# Altium footprint library PCB_FOCShield.PcbLib: 18 footprints (part 1 of 2)
Each footprint in its own frame and in the unit in brackets; x right, y up, seen from the top. Pads: shape width x height; smd on the part's side, far side on the other; paste and mask are expansions set on the pad; w line width, h text height; cw(c..) or ccw(c..) is an arc to the next point about the centre after c.
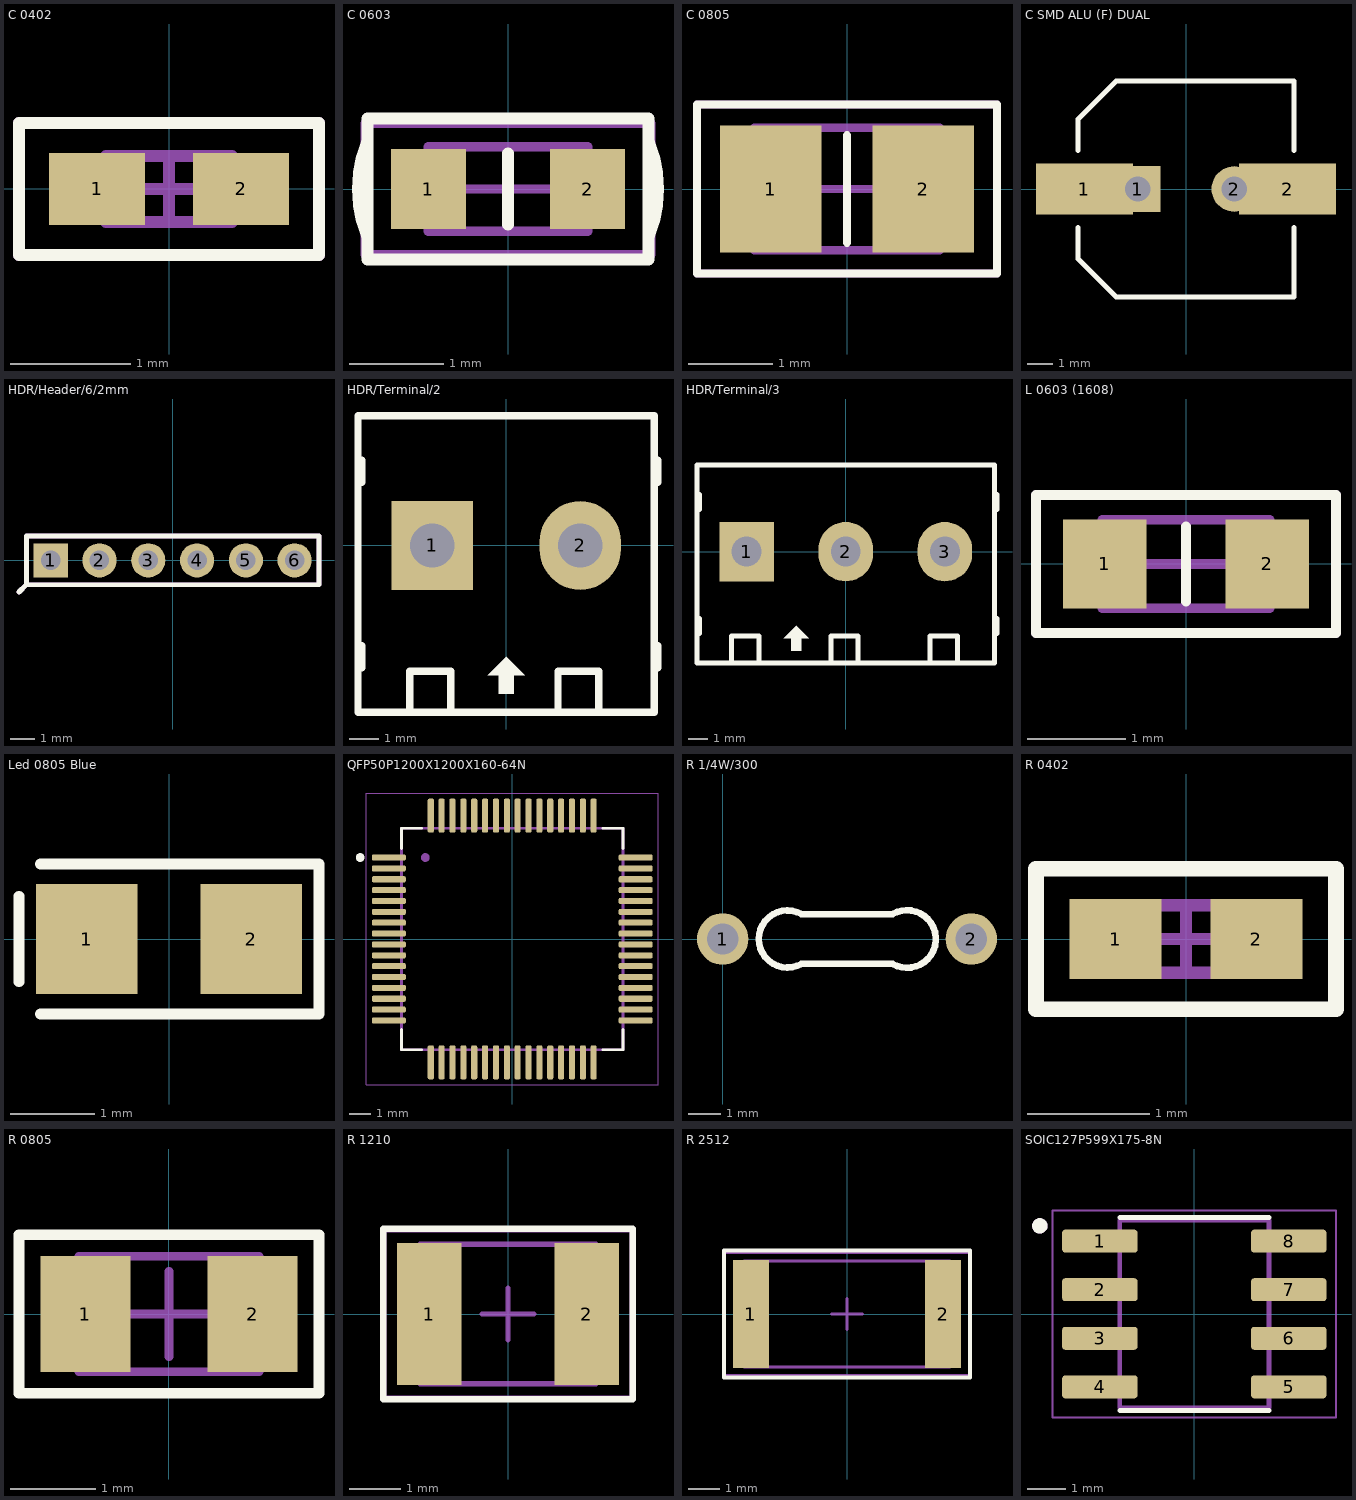
[diagram p0: the footprints below, top view; thin cyan lines are the x and y axes]

## C 0402 [mm]
pads (2):
  rect 0.8x0.6 smd: 1(-0.6,0) 2(0.6,0)
Top Overlay:
  lines w0.1: -1.25,-0.55 1.25,-0.55 1.25,0.55 -1.25,0.55 -1.25,-0.55
Mechanical 13:
  lines w0.1: -0.525,-0.275 0.525,-0.275 0.525,0.275 -0.525,0.275 -0.525,-0.275
Mechanical 15:
  lines w0.1: -0.275,0 0.275,0 ; 0,-0.275 0,0.275 ; -1.25,-0.55 1.25,-0.55 1.25,0.55 -1.25,0.55 -1.25,-0.55
3D body "User Library-CAPC1005X06.step": height 0.6, standoff 0, extent -0.5,-0.25 0.5,0.25

## C 0603 [mm]
pads (2):
  rect 0.8x0.85 smd: 1(-0.85,0) 2(0.85,0)
Top Overlay:
  lines w0.127: -1.503,-0.501 cw(c-0.25,0) -1.503,0.501 ; 0,-0.381 0,0.381 ; 1.503,-0.501 ccw(c0.25,0) 1.503,0.501 ; -1.5,-0.75 1.5,-0.75 1.5,0.75 -1.5,0.75 -1.5,-0.75
Mechanical 13:
  lines w0.1: -0.85,-0.45 0.85,-0.45 0.85,0.45 -0.85,0.45 -0.85,-0.45
Mechanical 15:
  lines w0.1: -0.45,0 0.45,0 ; 0,-0.45 0,0.45 ; -1.525,-0.7 1.525,-0.7 1.525,0.7 -1.525,0.7 -1.525,-0.7
3D body "User Library-Chip Capacitor2.step": height 0.81, standoff 0.01, extent -0.8,-0.432 0.8,0.428

## C 0805 [mm]
pads (2):
  rect 1.2x1.5 smd: 1(-0.9,0) 2(0.9,0)
Top Overlay:
  lines w0.1: 0,-0.635 0,0.635 ; -1.775,-1 -1.775,1 1.775,1 1.775,-1 -1.775,-1
Mechanical 13:
  lines w0.1: -1.1,-0.725 -1.1,0.725 1.1,0.725 1.1,-0.725 -1.1,-0.725
Mechanical 15:
  lines w0.1: -0.5,0 0.5,0 ; 0,-0.5 0,0.5 ; -1.775,-1 1.775,-1 1.775,1 -1.775,1 -1.775,-1
3D body "cap 0805.step": height 0.6, standoff 0, extent -1,-0.64 1,0.61

## C SMD ALU (F) DUAL [mm]
pads (4):
  rect 3.81x2 smd: 1(-4,0) 2(4,0)
  rect 1.8x1.8 hole 1: 1(-1.905,0)
  round 1.8 hole 1: 2(1.905,0)
Top Overlay:
  lines w0.2: -4.25,-1.524 -4.25,-2.75 -2.75,-4.25 4.25,-4.25 4.25,-1.524 ; -4.25,1.524 -4.25,2.75 -2.75,4.25 4.25,4.25 4.25,1.524
3D body "User Library-ALU-F.STEP": height 10.2, standoff 0, extent -4.95,-4.15 4.95,4.15

## HDR/Header/6/2mm [mm]
pads (6):
  rect 1.4x1.4 hole 0.8: 1(-5,0)
  round 1.4 hole 0.8: 2(-3,0) 3(-1,0) 4(1,0) 5(3,0) 6(5,0)
Top Overlay:
  lines w0.203: -6.3,-1.3 -6,-1 ; -6,-1 -6,1 6,1 6,-1 -6,-1
Mechanical 1:
  lines w0.203: -6.3,-1.3 -6,-1 ; -6,-1 -6,1 6,1 6,-1 -6,-1
3D body "pin_header_a-sl200-eg-g06d.stp": height 6, standoff -2.8, extent -5.975,-1 5.975,1

## HDR/Terminal/2 [mil]
pads (2):
  rect 110x120 hole 60: 1(-100,0)
  oval 110x120 hole 60: 2(100,0)
Top Overlay:
  region: 0,-150 -25,-175 -10,-175 -10,-200 10,-200 10,-175 25,-175
  lines w10: -195,-165 -195,-135 ; -195,85 -195,115 ; -130,-225 -130,-170 -75,-170 -75,-225 ; 70,-225 70,-170 125,-170 125,-225 ; 205,-165 205,-135 ; 205,85 205,115 ; -200,-225 -200,175 200,175 200,-225 -200,-225
3D body "13989.stp": height 559.05, standoff -137.8, extent -229.17,-217.91 200,167.91

## HDR/Terminal/3 [mil]
pads (3):
  rect 110x120 hole 60: 1(-200,0)
  oval 110x120 hole 60: 2(0,0) 3(200,0)
Top Overlay:
  region: -100,-150 -125,-175 -110,-175 -110,-200 -90,-200 -90,-175 -75,-175
  lines w10: -295,-165 -295,-135 ; -295,85 -295,115 ; -230,-225 -230,-170 -175,-170 -175,-225 ; -30,-225 -30,-170 25,-170 25,-225 ; 170,-225 170,-170 225,-170 225,-225 ; 305,-165 305,-135 ; 305,85 305,115 ; -300,-225 300,-225 300,175 -300,175 -300,-225
3D body "13989.stp": height 559.05, standoff -137.8, extent -129.17,-217.91 300,167.91
3D body "13989.stp": height 559.05, standoff -137.8, extent -329.17,-217.91 100,167.91

## L 0603 (1608) [mm]
pads (2):
  rect 0.85x0.9 smd: 1(-0.825,0) 2(0.825,0)
Top Overlay:
  lines w0.1: 0,-0.381 0,0.381 ; -1.525,-0.7 -1.525,0.7 1.525,0.7 1.525,-0.7 -1.525,-0.7
Mechanical 13:
  lines w0.1: -0.85,-0.45 -0.85,0.45 0.85,0.45 0.85,-0.45 -0.85,-0.45
Mechanical 15:
  lines w0.1: -0.45,0 0.45,0 ; 0,-0.45 0,0.45 ; -1.525,-0.7 -1.525,0.7 1.525,0.7 1.525,-0.7 -1.525,-0.7
3D body "User Library-Chip Inductor-L0603 (1608).step": height 0.8, standoff 0, extent -0.8,-0.475 0.8,0.475

## Led 0805 Blue [mm]
pads (2):
  rect 1.2x1.3 smd: 1(-0.975,0) 2(0.975,0)
Top Overlay:
  lines w0.127: -1.778,-0.508 -1.778,0.508 ; -1.524,-0.889 1.778,-0.889 1.778,0.889 -1.524,0.889
3D body "User Library-led_0805-blue.step": height 1.1, standoff 0, extent -1.01,-0.625 1.01,0.625

## QFP50P1200X1200X160-64N [mm]
pads (64):
  rrect50% 1.56x0.28 smd: 1(-5.68,3.75) 2(-5.68,3.25) 3(-5.68,2.75) 4(-5.68,2.25) 5(-5.68,1.75) 6(-5.68,1.25) 7(-5.68,0.75) 8(-5.68,0.25) 9(-5.68,-0.25) 10(-5.68,-0.75) 11(-5.68,-1.25) 12(-5.68,-1.75) 13(-5.68,-2.25) 14(-5.68,-2.75) 15(-5.68,-3.25) 16(-5.68,-3.75) 33(5.68,-3.75) 34(5.68,-3.25) 35(5.68,-2.75) 36(5.68,-2.25) 37(5.68,-1.75) 38(5.68,-1.25) 39(5.68,-0.75) 40(5.68,-0.25) 41(5.68,0.25) 42(5.68,0.75) 43(5.68,1.25) 44(5.68,1.75) 45(5.68,2.25) 46(5.68,2.75) 47(5.68,3.25) 48(5.68,3.75)
  rrect50% 0.28x1.56 smd: 17(-3.75,-5.68) 18(-3.25,-5.68) 19(-2.75,-5.68) 20(-2.25,-5.68) 21(-1.75,-5.68) 22(-1.25,-5.68) 23(-0.75,-5.68) 24(-0.25,-5.68) 25(0.25,-5.68) 26(0.75,-5.68) 27(1.25,-5.68) 28(1.75,-5.68) 29(2.25,-5.68) 30(2.75,-5.68) 31(3.25,-5.68) 32(3.75,-5.68) 49(3.75,5.68) 50(3.25,5.68) 51(2.75,5.68) 52(2.25,5.68) 53(1.75,5.68) 54(1.25,5.68) 55(0.75,5.68) 56(0.25,5.68) 57(-0.25,5.68) 58(-0.75,5.68) 59(-1.25,5.68) 60(-1.75,5.68) 61(-2.25,5.68) 62(-2.75,5.68) 63(-3.25,5.68) 64(-3.75,5.68)
Top Overlay:
  circle w0.2: c-7,3.75 r0.1
  lines w0.127: -5.1,-4.17 -5.1,-5.1 -4.17,-5.1 ; -5.1,4.17 -5.1,5.1 -4.17,5.1 ; 4.17,-5.1 5.1,-5.1 5.1,-4.17 ; 4.17,5.1 5.1,5.1 5.1,4.17
Mechanical 13:
  circle w0.2: c-4,3.75 r0.1
  lines w0.127: -5.1,-5.1 -5.1,5.1 5.1,5.1 5.1,-5.1 -5.1,-5.1
Mechanical 15:
  lines w0.05: -6.71,-6.71 -6.71,6.71 6.71,6.71 6.71,-6.71 -6.71,-6.71

## R 1/4W/300 [mil]
pads (2):
  round 62 hole 38: 1(0,0) 2(300,0)
Top Overlay:
  lines w8: 95,-30 cw(c78.05,0) 95,30 205,30 cw(c222.5,0) 205,-30 95,-30
3D body "User Library-R-Axial-0_25W-7_62.step": height 97.42, standoff -146.85, extent -11.8,-47.37 311.82,47.38

## R 0402 [mm]
pads (2):
  rect 0.75x0.65 smd: 1(-0.575,0) 2(0.575,0)
Top Overlay:
  lines w0.127: -1.225,-0.575 -1.225,0.575 1.225,0.575 1.225,-0.575 -1.225,-0.575
Mechanical 13:
  lines w0.1: -0.525,-0.275 -0.525,0.275 0.525,0.275 0.525,-0.275 -0.525,-0.275
Mechanical 15:
  lines w0.1: -0.275,0 0.275,0 ; 0,-0.275 0,0.275 ; -1.225,-0.575 -1.225,0.575 1.225,0.575 1.225,-0.575 -1.225,-0.575
3D body "User Library-Chip Resistor2 (1).step": height 0.4, standoff 0, extent -0.5,-0.25 0.5,0.25

## R 0805 [mm]
pads (2):
  rect 1.05x1.35 smd: 1(-0.975,0) 2(0.975,0)
Top Overlay:
  lines w0.127: -1.75,-0.925 1.75,-0.925 1.75,0.925 -1.75,0.925 -1.75,-0.925
Mechanical 13:
  lines w0.1: -1.05,-0.675 -1.05,0.675 1.05,0.675 1.05,-0.675 -1.05,-0.675
Mechanical 15:
  lines w0.1: -0.5,0 0.5,0 ; 0,-0.5 0,0.5 ; -1.75,-0.925 -1.75,0.925 1.75,0.925 1.75,-0.925 -1.75,-0.925
3D body "RESC2012X50N.step": height 0.5, standoff 0, extent -1,-0.61 1,0.59

## R 1210 [mm]
pads (2):
  rect 1.25x2.75 smd: 1(-1.525,0) 2(1.525,0)
Top Overlay:
  lines w0.127: -2.413,-1.651 2.413,-1.651 2.413,1.651 -2.413,1.651 -2.413,-1.651
Mechanical 13:
  lines w0.1: -1.7,-1.35 1.7,-1.35 1.7,1.35 -1.7,1.35 -1.7,-1.35
Mechanical 15:
  lines w0.1: -0.5,0 0.5,0 ; 0,-0.5 0,0.5 ; -2.4,-1.625 2.4,-1.625 2.4,1.625 -2.4,1.625 -2.4,-1.625
3D body "User Library-Chip Resistor2.step": height 0.7, standoff 0, extent -1.6,-1.25 1.6,1.25

## R 2512 [mm]
pads (2):
  rect 1.15x3.45 smd: 1(-3.075,0) 2(3.075,0)
Top Overlay:
  lines w0.127: -3.937,-2.032 -3.937,2.032 3.937,2.032 3.937,-2.032 -3.937,-2.032
Mechanical 13:
  lines w0.1: -3.3,-1.7 3.3,-1.7 3.3,1.7 -3.3,1.7 -3.3,-1.7
Mechanical 15:
  lines w0.1: -0.5,0 0.5,0 ; 0,-0.5 0,0.5 ; -3.925,-1.975 3.925,-1.975 3.925,1.975 -3.925,1.975 -3.925,-1.975
3D body "User Library-Chip Resistor2 (3).step": height 0.76, standoff 0, extent -3.2,-1.6 3.2,1.6

## SOIC127P599X175-8N [mm]
pads (8):
  rrect25% 1.97x0.6 smd: 1(-2.47,1.905) 2(-2.47,0.635) 3(-2.47,-0.635) 4(-2.47,-1.905) 5(2.47,-1.905) 6(2.47,-0.635) 7(2.47,0.635) 8(2.47,1.905)
Top Overlay:
  circle w0.2: c-4.04,2.305 r0.1
  lines w0.127: -1.95,-2.525 1.95,-2.525 ; -1.95,2.525 1.95,2.525
Mechanical 13:
  circle w0.2: c-4.04,2.305 r0.1
  lines w0.127: -1.95,-2.452 -1.95,2.452 1.95,2.452 1.95,-2.452 -1.95,-2.452
Mechanical 15:
  lines w0.05: -3.705,-2.702 -3.705,2.702 3.705,2.702 3.705,-2.702 -3.705,-2.702
3D body "step_temp.STEP": height 1.75, standoff 0, extent -2.451,-2.997 2.451,2.997